# EAGLE library part HMC1021Z (library trash-robot-eagle-library)
HMC1021Z one axis magnetic tunnel junction magnetic field sensor from Honeywell
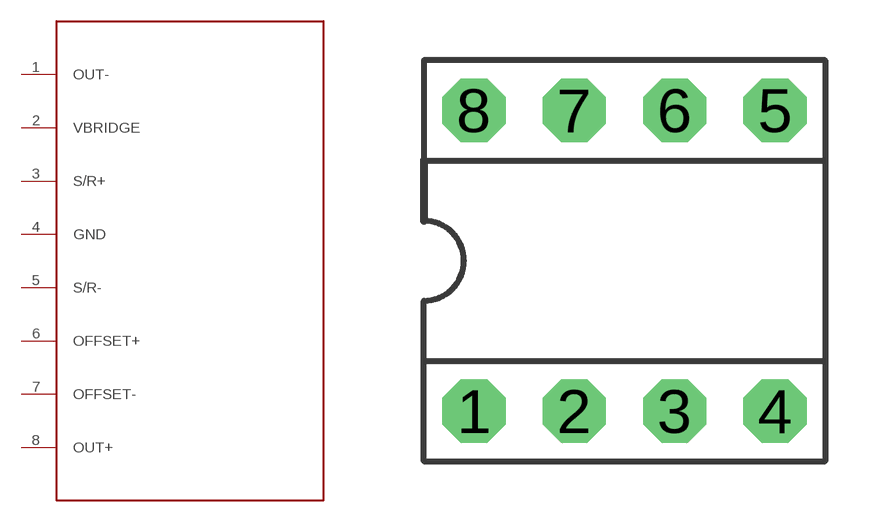
[diagram p22: symbol with the pads of 1072-BOOST; footprint 1072-BOOST]

Designator prefix -

## HMC1021Z8-SIP  [1072-BOOST]
1  OUT-
2  VBRIDGE
3  S/R+
4  GND
5  S/R-
6  OFFSET+
7  OFFSET-
8  OUT+

## Footprint 1072-BOOST (pad centres in mm)
drill 0.813 pad 1.6 octagon: 1 -3.81,-3.81; 2 -1.27,-3.81; 3 1.27,-3.81; 4 3.81,-3.81; 5 3.81,3.81; 6 1.27,3.81; 7 -1.27,3.81; 8 -3.81,3.81